# EAGLE library part TMP112AIDRLR (library TMP112AIDRLR)
Board Mount Temperature Sensors Hi-Prec Lo-Pwr Dig Temp Sensor Source: Datasheet <http://www.ti.com/general/docs/suppproductinfo.tsp?distId=10&gotoUrl=http://www.ti.com/lit/gpn/tmp112>
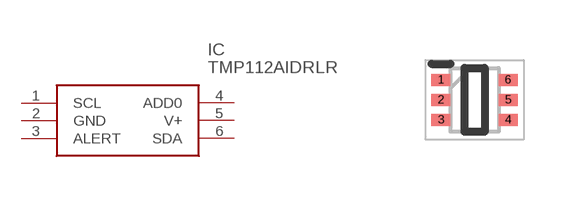
[diagram p0: symbol with the pads of SOTFL50P160X60-6N; footprint SOTFL50P160X60-6N]

Designator prefix IC

## TMP112AIDRLR (Description: Board Mount Temperature Sensors Hi-Prec Lo-Pwr Dig Temp Sensor; Height: 0.6mm; Manufacturer_Name: Texas Instruments; Manufacturer_Part_Number: TMP112AIDRLR; Mouser_Part_Number: 595-TMP112AIDRLR; Mouser_Price-Stock: https://www.mouser.co.uk/ProductDetail/Texas-Instruments/TMP112AIDRLR?qs=62Z1lCHpKYghtK4%2FJn2ysA%3D%3D)  [SOTFL50P160X60-6N]
1  SCL
2  GND
3  ALERT
4  ADD0
5  V+
6  SDA

## Footprint SOTFL50P160X60-6N (pad centres in mm)
DRL0006A height 0.6
smd 0.475 x 0.3: 1 -0.838,0.5; 2 -0.838,0; 3 -0.838,-0.5; 4 0.838,-0.5; 5 0.838,0; 6 0.838,0.5